# Altium footprint library Led_Libary_PCB.PcbLib: 2 footprints
Each footprint in its own frame and in the unit in brackets; x right, y up, seen from the top. Pads: shape width x height; smd on the part's side, far side on the other; paste and mask are expansions set on the pad; w line width, h text height; cw(c..) or ccw(c..) is an arc to the next point about the centre after c.
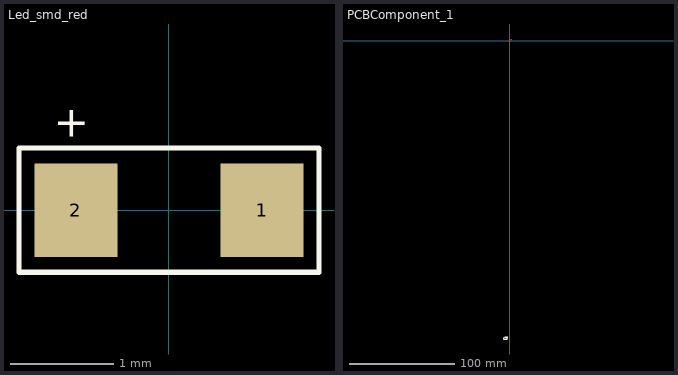
[diagram p0: the footprints below, top view; thin cyan lines are the x and y axes]

## Led_smd_red [mm]
pads (2):
  rect 0.8x0.9 smd: 1(0.9,0) 2(-0.9,0)
Top Overlay:
  lines w0.05: -1.45,-0.6 1.45,-0.6 1.45,0.6 -1.45,0.6 -1.45,-0.6
  text "+" at -1.115,0.71 h0.3

## PCBComponent_1 [mm]
Top Layer:
  rectangle: -0.331,0.828 0.469,1.728
  rectangle: 1.294,0.828 2.094,1.728
  rectangle: -1.375,-0.4 -0.475,0.4
  rectangle: 0.425,-0.4 1.325,0.4
Top Overlay:
  lines w0.05: -5.55,-282.6 -2.6,-282.6 -2.6,-281.6 -5.55,-281.6 -5.55,-282.6
  lines w0.1: -4.5,-281.275 -1.8,-281.275 -1.8,-280.375 -4.5,-280.375 -4.5,-281.275
Top Paste:
  rectangle: -0.331,0.828 0.469,1.728
  rectangle: 1.294,0.828 2.194,1.628
  rectangle: -1.375,-0.4 -0.475,0.4
  rectangle: 0.425,-0.4 1.325,0.4